# Altium footprint library pcblib.PcbLib: 44 footprints (part 3 of 3)
Each footprint in its own frame and in the unit in brackets; x right, y up, seen from the top. Pads: shape width x height; smd on the part's side, far side on the other; paste and mask are expansions set on the pad; w line width, h text height; cw(c..) or ccw(c..) is an arc to the next point about the centre after c.
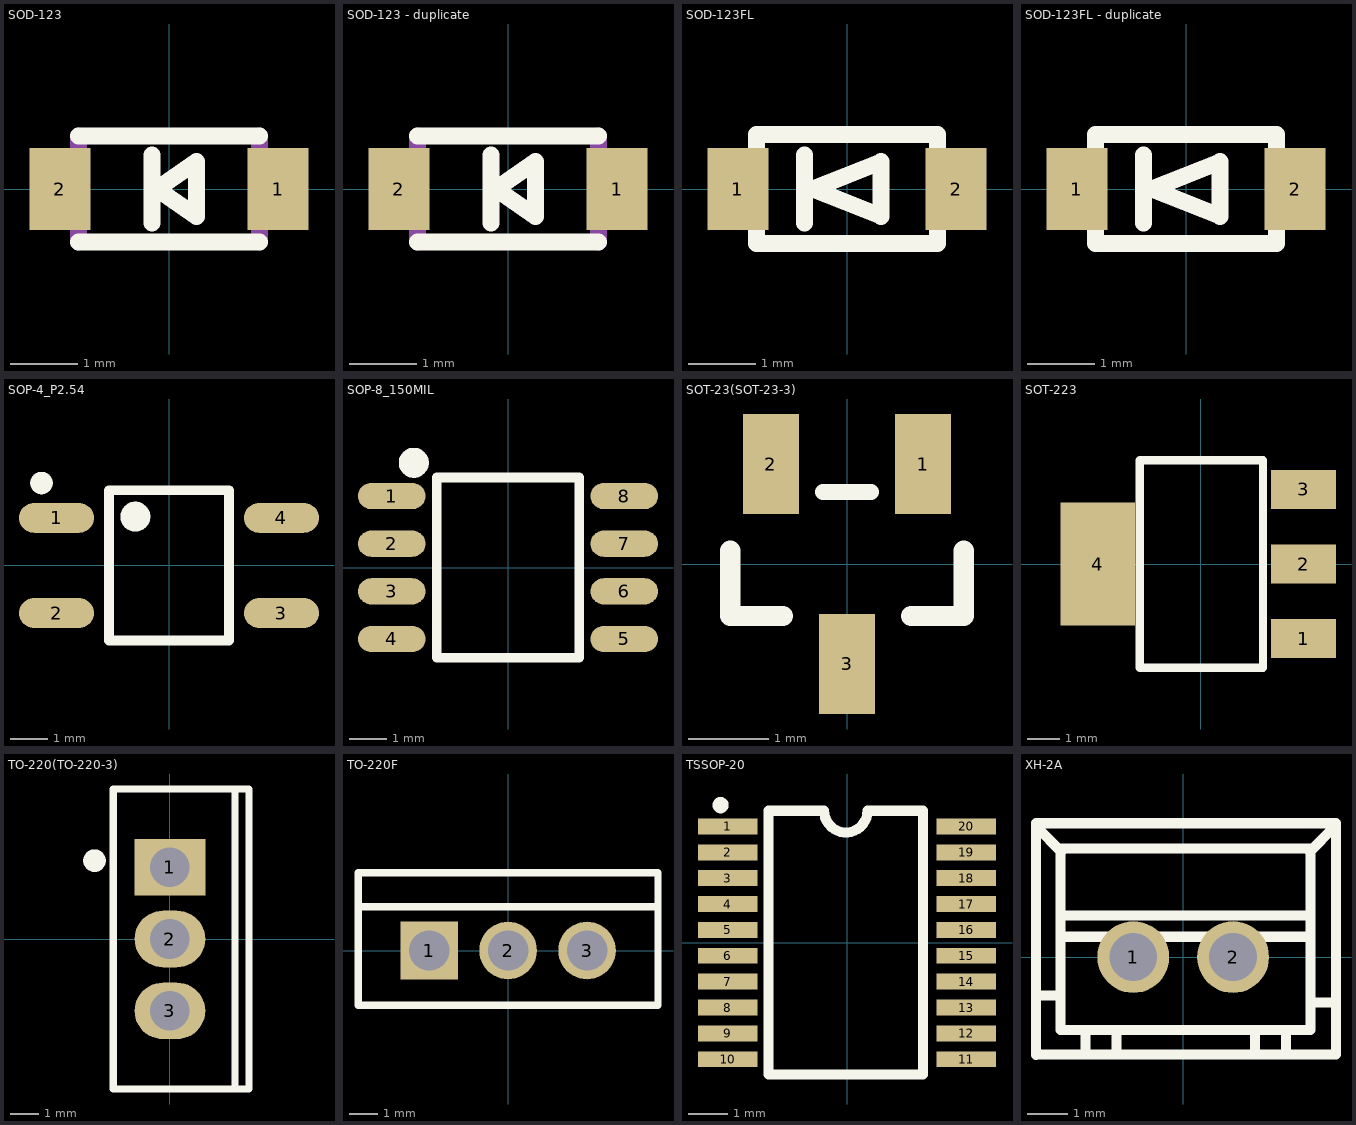
[diagram p2: the footprints below, top view; thin cyan lines are the x and y axes]

## SOD-123 [mil]
pads (2):
  rect 35.8x48 smd: 1(64,0) 2(-64,0)
Top Overlay:
  lines w10: -53,-31 53,-31 ; -53,31 53,31 ; -10,-20 -10,20 ; -7,0 16,-16 16,16 -7,0
Mechanical 15:
  lines w10: -53,-31 -53,31 ; 53,-31 53,31

## SOD-123 - duplicate [mil]
pads (2):
  rect 35.8x48 smd: 1(64,0) 2(-64,0)
Top Overlay:
  lines w10: -53,-31 53,-31 ; -53,31 53,31 ; -10,-20 -10,20 ; -7,0 16,16 16,-16 -7,0
Mechanical 15:
  lines w10: -53,-31 -53,31 ; 53,-31 53,31

## SOD-123FL [mil]
pads (2):
  rect 35.8x48 smd: 1(-64,0) 2(64,0)
Top Overlay:
  lines w10: -25,-20 -25,20 ; -53,-32 53,-32 53,32 -53,32 -53,-32 ; -20,0 20,16 20,-16 -20,0

## SOD-123FL - duplicate [mil]
pads (2):
  rect 35.8x48 smd: 1(-64,0) 2(64,0)
Top Overlay:
  lines w10: -25,-20 -25,20 ; -53,-32 -53,32 53,32 53,-32 -53,-32 ; -20,0 20,-16 20,16 -20,0

## SOP-4_P2.54 [mm]
pads (4):
  oval 2x0.8 smd: 1(-3,1.27) 2(-3,-1.27) 3(3,-1.27) 4(3,1.27)
Top Overlay:
  lines w0.254: -1.6,-2 -1.6,2 1.6,2 1.6,-2 -1.6,-2
  lines w0.3: -3.401,2.349 ccw(c-3.4,2.199) -3.399,2.349
  lines w0.4: -0.899,1.501 ccw(c-0.898,1.301) -0.897,1.501

## SOP-8_150MIL [mm]
pads (8):
  oval 1.8x0.7 smd: 1(-3.099,1.905) 2(-3.099,0.635) 3(-3.099,-0.635) 4(-3.099,-1.905) 5(3.099,-1.905) 6(3.099,-0.635) 7(3.099,0.635) 8(3.099,1.905)
Top Overlay:
  lines w0.254: -1.905,-2.4 1.905,-2.4 1.905,2.4 1.4,2.4 -1.905,2.4 -1.905,-2.4
  lines w0.4: -2.311,2.791 cw(c-2.511,2.793) -2.311,2.794

## SOT-23(SOT-23-3) [mm]
pads (3):
  rect 0.7x1.25 smd: 1(0.95,1.25) 2(-0.95,1.25) 3(0,-1.25)
Top Overlay:
  lines w0.2: -0.3,0.9 0.3,0.9
  lines w0.254: -1.46,0.165 -1.46,-0.65 ; 0.8,-0.65 1.46,-0.65 1.46,0.165 ; -1.46,-0.65 -0.8,-0.65 ; -1.46,-0.65 -0.8,-0.65 ; -1.46,-0.65 -0.8,-0.65

## SOT-223 [mm]
pads (4):
  rect 2x1.2 smd: 1(3.175,-2.3) 2(3.175,0) 3(3.175,2.3)
  rect 2.3x3.8 smd: 4(-3.175,0)
Top Overlay:
  lines w0.254: -1.875,-3.2 1.925,-3.2 1.925,3.2 -1.875,3.2 -1.875,-3.2

## TO-220(TO-220-3) [mm]
pads (3):
  rect 2.5x2 hole 1.4: 1(0,2.54)
  oval 2.5x2 hole 1.4: 2(0,0) 3(0,-2.54)
Top Overlay:
  lines w0.254: 2.3,-5.3 2.3,5.3 ; -2,-5.3 -2,5.3 2.8,5.3 2.8,-5.3 -2,-5.3
  lines w0.4: -2.464,2.766 cw(c-2.664,2.767) -2.464,2.769

## TO-220F [mm]
pads (3):
  rect 2x2 hole 1.4: 1(-2.74,0)
  round 2 hole 1.4: 2(0,0) 3(2.74,0)
Top Overlay:
  lines w0.254: -5.207,1.524 5.193,1.524 ; -5.2,-1.9 -5.2,2.7 5.2,2.7 5.2,-1.9 -5.2,-1.9

## TSSOP-20 [mm]
pads (20):
  rect 1.494x0.4 smd: 1(-3.001,2.925) 2(-3.001,2.275) 3(-3.001,1.625) 4(-3.001,0.975) 5(-3.001,0.325) 6(-3.001,-0.324) 7(-3.001,-0.975) 8(-3.001,-1.625) 9(-3.001,-2.275) 10(-3.001,-2.925) 11(3.001,-2.925) 12(3.001,-2.275) 13(3.001,-1.625) 14(3.001,-0.975) 15(3.001,-0.325) 16(3.001,0.325) 17(3.001,0.975) 18(2.996,1.625) 19(2.996,2.275) 20(3.001,2.925)
Top Overlay:
  circle w0.254: c-3.176,3.458 r0.076
  lines w0.254: -1.972,3.291 -1.972,-3.311 1.914,-3.311 1.914,3.319 0.517,3.319 cw(c-0.029,3.319) -0.575,3.319 ; -1.972,3.319 -0.601,3.319

## XH-2A [mm]
pads (2):
  round 1.8 hole 1.199: 1(-1.251,0) 2(1.251,0)
Top Overlay:
  lines w0.254: -3.689,-2.447 -3.689,3.353 3.811,3.353 ; -3.689,-0.965 -3.105,-0.965 ; -3.671,-2.438 3.829,-2.438 3.829,3.353 ; -3.664,3.327 -3.664,3.251 -3.054,2.642 ; -3.08,0.508 3.194,0.508 ; -3.08,1.041 3.194,1.041 ; -3.08,2.718 3.194,2.718 3.194,-1.829 -3.08,-1.829 -3.08,2.692 -3.054,2.692 ; -2.445,-2.413 -2.445,-1.829 ; -1.67,-2.426 -1.67,-1.841 ; 1.797,-2.413 1.797,-1.829 ; 2.572,-2.426 2.572,-1.841 ; 3.169,2.642 3.778,3.251 3.778,3.327 ; 3.219,-1.143 3.804,-1.143